# EAGLE library part MAX6682 (library PP_Sensors)
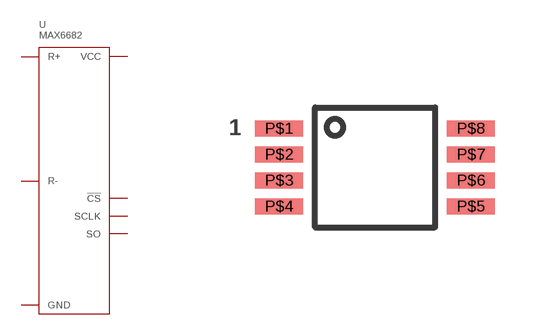
[diagram p10: symbol with the pads of MAX6682_UMAX-8; footprint MAX6682_UMAX-8]

Designator prefix U

## MAX6682MUA+  [MAX6682_UMAX-8]
P$2  R+
P$3  R-
P$4  GND
P$5  !CS
P$6  SO
P$7  SCLK
P$8  VCC

## Footprint MAX6682_UMAX-8 (pad centres in mm)
smd 1.2 x 0.4: P$1 -2.4,0.975; P$2 -2.4,0.325; P$3 -2.4,-0.325; P$4 -2.4,-0.975; P$5 2.4,-0.975; P$6 2.4,-0.325; P$7 2.4,0.325; P$8 2.4,0.975